# Altium footprint library SMA-R_A-F.PcbLib: 1 footprints
Each footprint in its own frame and in the unit in brackets; x right, y up, seen from the top. Pads: shape width x height; smd on the part's side, far side on the other; paste and mask are expansions set on the pad; w line width, h text height; cw(c..) or ccw(c..) is an arc to the next point about the centre after c.
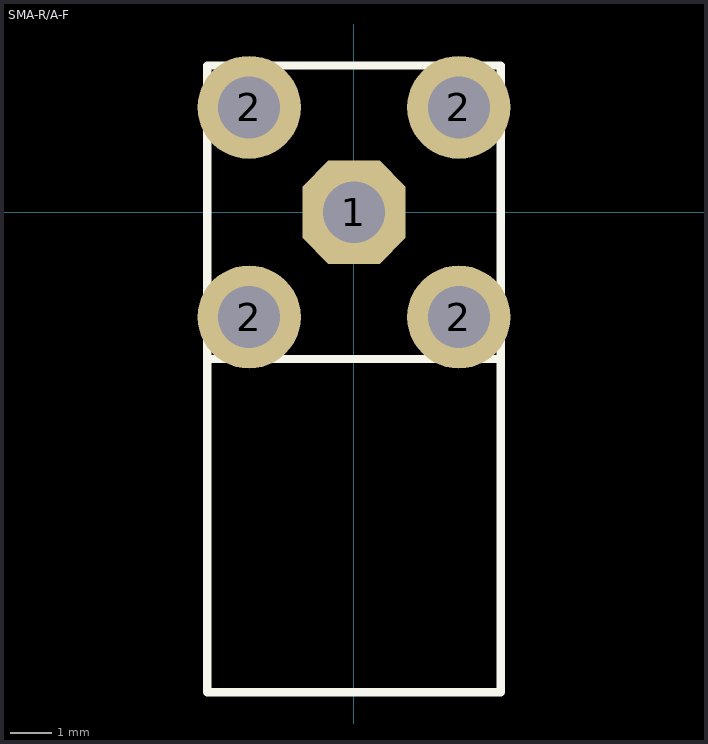
[diagram p0: the footprint, top view; thin cyan lines are the x and y axes]

## SMA-R/A-F [mm]
pads (5):
  oct 2.5x2.5 hole 1.5: 1(0,0)
  round 2.5 hole 1.5: 2(-2.54,-2.54) 2(-2.54,2.54) 2(2.54,-2.54) 2(2.54,2.54)
Top Overlay:
  lines w0.2: -3.556,-3.52 -3.556,-11.63 3.556,-11.63 3.556,-3.429 3.556,3.556 -3.556,3.556 -3.556,-3.556 3.556,-3.556
3D body "HYR-1141.stp": height 3.38, standoff -10.15, extent -3.17,-11.625 3.16,3.18